# Altium schematic symbol library Optos.Schlib: 4 symbols
Pins are listed as number, name and electrical type; pins without a type are passive.

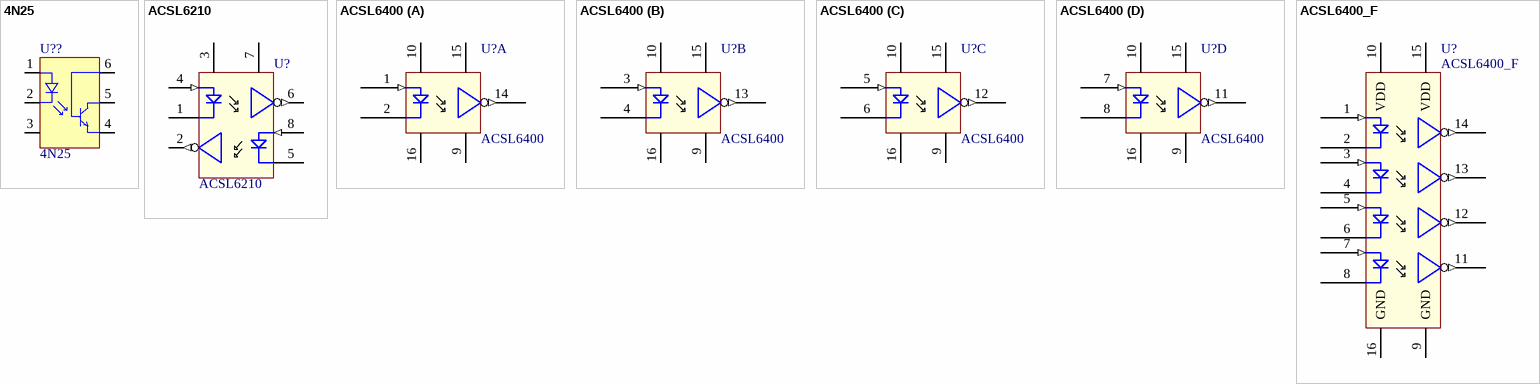
[diagram p0: symbols 4N25 to ACSL6400_F]

## 4N25
designator U??
Optocoupler, Phototransistor Output, Dual Channel, TTL Compatible, Pb-free
footprint DIP6_4N25 (DIP; 6 Leads; Row Spacing 7.62 mm; Pitch 2.54 mm)
pins: 1 A, 2 K, 3 NC, 4 E, 5 C, 6 B

## ACSL6210
designator U?
Agilent ACSL-6xx0  Multi-Channel and Bi-Directional,  15 MBd Digital Logic Gate Optocoupler
footprint SO8L_ACSL6210 (8-Pin Plastic Small Outline Integrated Circuit 1.27 mm Pitch, IPC High Density)
pins: 1 K2, 2 Vout1 (out), 3 VDD1 (power), 4 A2 (in), 5 K1, 6 Vout2 (out), 7 VDD2 (power), 8 A1 (in)

## ACSL6400
designator U?
Agilent ACSL-6xx0  Multi-Channel and Bi-Directional,  15 MBd Digital Logic Gate Optocoupler
footprint SO16_ACS6400 (Small Outline; 16 Leads; Body Width 5.6 mm; Pitch 1.27 mm)
pins on every part: 9 GND (power), 10 VDD (power), 15 VDD (power), 16 GND (power)
part A pins: 1 A4 (in), 2 K4, 14 Vout4 (out)
part B pins: 3 A4 (in), 4 K4, 13 Vout4 (out)
part C pins: 5 A4 (in), 6 K4, 12 Vout4 (out)
part D pins: 7 A4 (in), 8 K4, 11 Vout4 (out)

## ACSL6400_F
designator U?
Agilent ACSL-6xx0  Multi-Channel and Bi-Directional,  15 MBd Digital Logic Gate Optocoupler
footprint SO16_ACSL6400F (Small Outline; 16 Leads; Body Width 5.6 mm; Pitch 1.27 mm)
pins: 1 A1 (in), 2 K1, 3 A2 (in), 4 K2, 5 A3 (in), 6 K3, 7 A4 (in), 8 K4, 9 GND (power), 10 VDD (power), 11 Vout4 (out), 12 Vout3 (out), 13 Vout2 (out), 14 Vout1 (out), 15 VDD (power), 16 GND (power)